# Altium schematic symbol library ERJ-6GEYJ102V.SchLib: 1 symbol
Pins are listed as number, name and electrical type; pins without a type are passive.

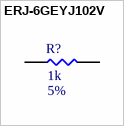
[diagram p0: symbol ERJ-6GEYJ102V]

## ERJ-6GEYJ102V
designator R?  Resistance: 1k  Tolerance: 5%  (hidden comment: ERJ-6GEYJ102V)
RES SMD 1K OHM 5% 1/8W 0805; MFR: Panasonic Electronic Components; PN: ERJ-6GEYJ102V; Footprint: RES0805; Package: 0805; ComponentLink1Description: Datasheet; ComponentLink1URL: https://industrial.panasonic.com/ww/products/resistors/chip-resistors/general-purpose-chip-resistors/models/ERJ6GEYJ102V; Power Rating: 1/8W; Supplier 1: Digi-Key; Supplier Part Number 1: P220ACT-ND
footprint RES0805 (Generic 0805 PCB Footprint)
pins: 1, 2